# Altium schematic symbol library WE-STST.SchLib: 7 symbols
Pins are listed as number, name and electrical type; pins without a type are passive.

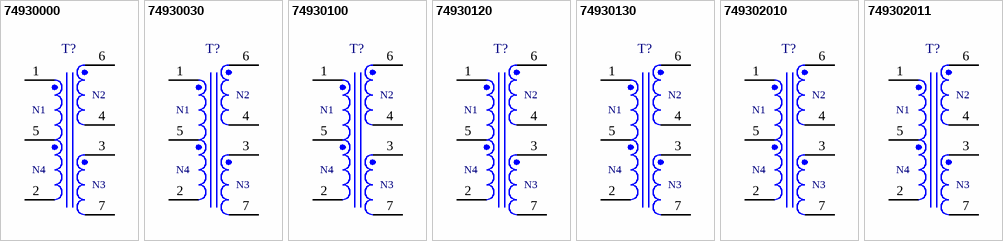
[diagram p0: symbols 74930000 to 749302011]

## 74930000
designator T?  (value not drawn)
WE-STST SMT Super Tiny Signal Transformer, size 4532, 1:1, 350uH; Manufacturer: Wurth Elektronik; Case/Size Code: 4532; Data Rate: 10/100/1GBase-T, 10/100Base-T1; Insulation Test Voltage: 1500Vrms; Manufacturer Part Number: 74930000; Category: Signal Transformers; Match Code: WE-STST; ComponentLink1Description: Website Link; ComponentLink1URL: https://www.we-online.com/redexpert/article/74930000?ad; ComponentLink2Description: Datasheet Link; ComponentLink2URL: https://www.we-online.com/redexpert/spec/74930000?ad; Mount: Surface Mount; Min Operating Temperature: -40°C; Max Operating Temperature: 105°C; Packaging: Tape and Reel; Length: 4.7mm; Width: 3.22mm; Height: 2.9mm; Application: Ethernet, Single Pair Ethernet; Inductance: 350uH; Turns Ratio: 1:1
footprint 74930000
footprint 74930000_for PoDL and 10Base-T1
pins: 1, 2, 3, 4, 5, 6, 7
text: N2; N1; N4; N3

## 74930030
designator T?  (value not drawn)
WE-STST SMT Super Tiny Signal Transformer, size 4532, 1:1, 350uH; Manufacturer: Wurth Elektronik; Case/Size Code: 4532; Data Rate: 10/100/1GBase-T; Insulation Test Voltage: 1500Vrms; Manufacturer Part Number: 74930030; Category: Signal Transformers; Match Code: WE-STST; ComponentLink1Description: Website Link; ComponentLink1URL: https://www.we-online.com/redexpert/article/74930030?ad; ComponentLink2Description: Datasheet Link; ComponentLink2URL: https://www.we-online.com/redexpert/spec/74930030?ad; Mount: Surface Mount; Min Operating Temperature: -40°C; Max Operating Temperature: 105°C; Packaging: Tape and Reel; Length: 4.7mm; Width: 3.22mm; Height: 2.9mm; Application: Ethernet, PoE; Inductance: 350uH; Turns Ratio: 1:1
footprint 74930030
pins: 1, 2, 3, 4, 5, 6, 7
text: N2; N1; N4; N3

## 74930100
designator T?  (value not drawn)
WE-STST SMT Super Tiny Signal Transformer, size 4532, 1:1, 120uH; Manufacturer: Wurth Elektronik; Case/Size Code: 4532; Data Rate: 10/100/1G/10GBase-T, 100/1GBase-T1; Insulation Test Voltage: 1500Vrms; Manufacturer Part Number: 74930100; Category: Signal Transformers; Match Code: WE-STST; ComponentLink1Description: Website Link; ComponentLink1URL: https://www.we-online.com/redexpert/article/74930100?ad; ComponentLink2Description: Datasheet Link; ComponentLink2URL: https://www.we-online.com/redexpert/spec/74930100?ad; Mount: Surface Mount; Min Operating Temperature: -40°C; Max Operating Temperature: 105°C; Packaging: Tape and Reel; Length: 4.7mm; Width: 3.22mm; Height: 2.9mm; Application: Ethernet, Single Pair Ethernet; Inductance: 120uH; Turns Ratio: 1:1
footprint 74930100
footprint 74930100_for PoDL and 10Base-T1
pins: 1, 2, 3, 4, 5, 6, 7
text: N2; N1; N4; N3

## 74930120
designator T?  (value not drawn)
WE-STST SMT Super Tiny Signal Transformer, size 4532, 1:1, 110uH; Manufacturer: Wurth Elektronik; Case/Size Code: 4532; Data Rate: 10/100/1G/10GBase-T; Insulation Test Voltage: 1500Vrms; Manufacturer Part Number: 74930120; Category: Signal Transformers; Match Code: WE-STST; ComponentLink1Description: Website Link; ComponentLink1URL: https://www.we-online.com/redexpert/article/74930120?ad; ComponentLink2Description: Datasheet Link; ComponentLink2URL: https://www.we-online.com/redexpert/spec/74930120?ad; Mount: Surface Mount; Min Operating Temperature: -40°C; Max Operating Temperature: 105°C; Packaging: Tape and Reel; Length: 4.7mm; Width: 3.22mm; Height: 2.9mm; Application: Ethernet, PoE+; Inductance: 110uH; Turns Ratio: 1:1
footprint 74930120
pins: 1, 2, 3, 4, 5, 6, 7
text: N2; N1; N4; N3

## 74930130
designator T?  (value not drawn)
WE-STST SMT Super Tiny Signal Transformer, size 4532, 1:1, 110uH; Manufacturer: Wurth Elektronik; Case/Size Code: 4532; Data Rate: 10/100/1G/10GBase-T; Insulation Test Voltage: 1500Vrms; Manufacturer Part Number: 74930130; Category: Signal Transformers; Match Code: WE-STST; ComponentLink1Description: Website Link; ComponentLink1URL: https://www.we-online.com/redexpert/article/74930130?ad; ComponentLink2Description: Datasheet Link; ComponentLink2URL: https://www.we-online.com/redexpert/spec/74930130?ad; Mount: Surface Mount; Min Operating Temperature: -40°C; Max Operating Temperature: 105°C; Packaging: Tape and Reel; Length: 4.7mm; Width: 3.22mm; Height: 2.9mm; Application: Ethernet, PoE; Inductance: 110uH; Turns Ratio: 1:1
footprint 74930130
pins: 1, 2, 3, 4, 5, 6, 7
text: N2; N1; N4; N3

## 749302010
designator T?  (value not drawn)
WE-STST SMT Super Tiny Signal Transformer, size 4532, 1:4.5:4.5:1, 300uH; Manufacturer: Wurth Elektronik; Case/Size Code: 4532; Insulation Test Voltage: 400Vrms; Manufacturer Part Number: 749302010; Category: Signal Transformers; Match Code: WE-STST; ComponentLink1Description: Website Link; ComponentLink1URL: https://www.we-online.com/redexpert/article/749302010?ad; ComponentLink2Description: Datasheet Link; ComponentLink2URL: https://www.we-online.com/redexpert/spec/749302010?ad; Mount: Surface Mount; Min Operating Temperature: -40°C; Max Operating Temperature: 85°C; Packaging: Tape and Reel; Length: 4.7mm; Width: 3.22mm; Height: 2.9mm; Application: Short distance for high frequency; Inductance: 300uH; Turns Ratio: 1:4.5:4.5:1
footprint 749302010
pins: 1, 2, 3, 4, 5, 6, 7
text: N2; N1; N4; N3

## 749302011
designator T?  (value not drawn)
WE-STST SMT Super Tiny Signal Transformer, size 4532, 1:4.5:4.5:1, 2000uH; Manufacturer: Wurth Elektronik; Case/Size Code: 4532; Insulation Test Voltage: 400Vrms; Manufacturer Part Number: 749302011; Category: Signal Transformers; Match Code: WE-STST; ComponentLink1Description: Website Link; ComponentLink1URL: https://www.we-online.com/redexpert/article/749302011?ad; ComponentLink2Description: Datasheet Link; ComponentLink2URL: https://www.we-online.com/redexpert/spec/749302011?ad; Mount: Surface Mount; Min Operating Temperature: -40°C; Max Operating Temperature: 85°C; Packaging: Tape and Reel; Length: 4.7mm; Width: 3.22mm; Height: 2.9mm; Application: Long distance for low frequency; Inductance: 2000uH; Turns Ratio: 1:4.5:4.5:1
footprint 749302011
pins: 1, 2, 3, 4, 5, 6, 7
text: N2; N1; N4; N3